# EAGLE library part LSM303D (library LSM303D)
Ultra-compact high-performance eCompass module: 3D accelerometer and 3D magnetometer
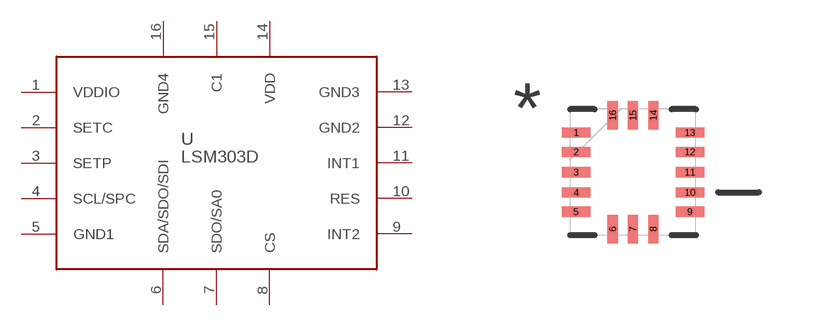
[diagram p0: symbol with the pads of LGA16R50P3X5_300X300X100; footprint LGA16R50P3X5_300X300X100]

Designator prefix U

## LSM303D  [LGA16R50P3X5_300X300X100]
1  VDDIO
2  SETC
3  SETP
4  SCL/SPC
5  GND1
6  SDA/SDO/SDI
7  SDO/SA0
8  CS
9  INT2
10  RES
11  INT1
12  GND2
13  GND3
14  VDD
15  C1
16  GND4

## Footprint LGA16R50P3X5_300X300X100 (pad centres in mm)
smd 0.711 x 0.254: 1 -1.422,0.991; 2 -1.422,0.508; 3 -1.422,0; 4 -1.422,-0.508; 5 -1.422,-0.991; 9 1.422,-0.991; 10 1.422,-0.508; 11 1.422,0; 12 1.422,0.508; 13 1.422,0.991
smd 0.254 x 0.711: 6 -0.508,-1.422; 7 0,-1.422; 8 0.508,-1.422; 14 0.508,1.422; 15 0,1.422; 16 -0.508,1.422